# Altium schematic symbol library WE-SL1.SchLib: 8 symbols
Pins are listed as number, name and electrical type; pins without a type are passive.

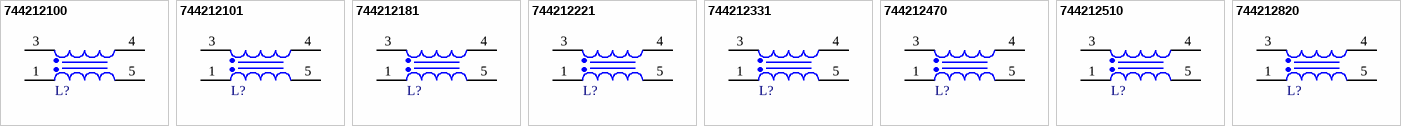
[diagram p0: symbols 744212100 to 744212820]

## 744212100
designator L?, comment 10uH  (value not drawn)
WE-SL1 SMT Common Mode Line Filter, 10uH, 300mA, 0.24Ohm; Manufacturer: Wurth Elektronik; Manufacturer Part Number: 744212100; Impedance Max: 1200Ohm; Number of Windings: 2; Rated Voltage: 80V; Winding Style: sectional; ComponentLink1Description: Manufacturer Link; ComponentLink1URL: https://www.we-online.com/redexpert/article/744212100?ad; ComponentLink2Description: Datasheet; ComponentLink2URL: https://www.we-online.com/redexpert/spec/744212100?ad; Category: Common Mode Chokes; Match Code: WE-SL1; Mount: Surface Mount; Operating Temperature Max: 105°C; Operating Temperature Min: -40°C; Packaging: Tape and Reel; Length: 6.5mm; Width: 3.6mm; Height: 1.65mm; DC Resistance Max: 0.24Ohm; Inductance: 10uH; Rated Current: 300mA
footprint WE-SL1_L6.5W3.6H1.65
pins: 1, 3, 4, 5

## 744212101
designator L?, comment 100uH  (value not drawn)
WE-SL1 SMT Common Mode Line Filter, 100uH, 300mA, 0.22Ohm; Manufacturer: Wurth Elektronik; Manufacturer Part Number: 744212101; Impedance Max: 500Ohm; Number of Windings: 2; Rated Voltage: 80V; Winding Style: sectional; ComponentLink1Description: Manufacturer Link; ComponentLink1URL: https://www.we-online.com/redexpert/article/744212101?ad; ComponentLink2Description: Datasheet; ComponentLink2URL: https://www.we-online.com/redexpert/spec/744212101?ad; Category: Common Mode Chokes; Match Code: WE-SL1; Mount: Surface Mount; Operating Temperature Max: 105°C; Operating Temperature Min: -40°C; Packaging: Tape and Reel; Length: 6.5mm; Width: 3.6mm; Height: 1.65mm; DC Resistance Max: 0.22Ohm; Inductance: 100uH; Rated Current: 300mA
footprint WE-SL1_L6.5W3.6H1.65
pins: 1, 3, 4, 5

## 744212181
designator L?, comment 180uH  (value not drawn)
WE-SL1 SMT Common Mode Line Filter, 180uH, 300mA, 0.25Ohm; Manufacturer: Wurth Elektronik; Manufacturer Part Number: 744212181; Impedance Max: 1000Ohm; Number of Windings: 2; Rated Voltage: 80V; Winding Style: sectional; ComponentLink1Description: Manufacturer Link; ComponentLink1URL: https://www.we-online.com/redexpert/article/744212181?ad; ComponentLink2Description: Datasheet; ComponentLink2URL: https://www.we-online.com/redexpert/spec/744212181?ad; Category: Common Mode Chokes; Match Code: WE-SL1; Mount: Surface Mount; Operating Temperature Max: 105°C; Operating Temperature Min: -40°C; Packaging: Tape and Reel; Length: 6.5mm; Width: 3.6mm; Height: 1.65mm; DC Resistance Max: 0.25Ohm; Inductance: 180uH; Rated Current: 300mA
footprint WE-SL1_L6.5W3.6H1.65
pins: 1, 3, 4, 5

## 744212221
designator L?, comment 220uH  (value not drawn)
WE-SL1 SMT Common Mode Line Filter, 220uH, 300mA, 0.28Ohm; Manufacturer: Wurth Elektronik; Manufacturer Part Number: 744212221; Impedance Max: 1200Ohm; Number of Windings: 2; Rated Voltage: 80V; Winding Style: sectional; ComponentLink1Description: Manufacturer Link; ComponentLink1URL: https://www.we-online.com/redexpert/article/744212221?ad; ComponentLink2Description: Datasheet; ComponentLink2URL: https://www.we-online.com/redexpert/spec/744212221?ad; Category: Common Mode Chokes; Match Code: WE-SL1; Mount: Surface Mount; Operating Temperature Max: 105°C; Operating Temperature Min: -40°C; Packaging: Tape and Reel; Length: 6.5mm; Width: 3.6mm; Height: 1.65mm; DC Resistance Max: 0.28Ohm; Inductance: 220uH; Rated Current: 300mA
footprint WE-SL1_L6.5W3.6H1.65
pins: 1, 3, 4, 5

## 744212331
designator L?, comment 330uH  (value not drawn)
WE-SL1 SMT Common Mode Line Filter, 330uH, 300mA, 0.3Ohm; Manufacturer: Wurth Elektronik; Manufacturer Part Number: 744212331; Impedance Max: 2000Ohm; Number of Windings: 2; Rated Voltage: 80V; Winding Style: sectional; ComponentLink1Description: Manufacturer Link; ComponentLink1URL: https://www.we-online.com/redexpert/article/744212331?ad; ComponentLink2Description: Datasheet; ComponentLink2URL: https://www.we-online.com/redexpert/spec/744212331?ad; Category: Common Mode Chokes; Match Code: WE-SL1; Mount: Surface Mount; Operating Temperature Max: 105°C; Operating Temperature Min: -40°C; Packaging: Tape and Reel; Length: 6.5mm; Width: 3.6mm; Height: 1.65mm; DC Resistance Max: 0.3Ohm; Inductance: 330uH; Rated Current: 300mA
footprint WE-SL1_L6.5W3.6H1.65
pins: 1, 3, 4, 5

## 744212470
designator L?, comment 47uH  (value not drawn)
WE-SL1 SMT Common Mode Line Filter, 47uH, 300mA, 0.16Ohm; Manufacturer: Wurth Elektronik; Manufacturer Part Number: 744212470; Impedance Max: 300Ohm; Number of Windings: 2; Rated Voltage: 80V; Winding Style: sectional; ComponentLink1Description: Manufacturer Link; ComponentLink1URL: https://www.we-online.com/redexpert/article/744212470?ad; ComponentLink2Description: Datasheet; ComponentLink2URL: https://www.we-online.com/redexpert/spec/744212470?ad; Category: Common Mode Chokes; Match Code: WE-SL1; Mount: Surface Mount; Operating Temperature Max: 105°C; Operating Temperature Min: -40°C; Packaging: Tape and Reel; Length: 6.5mm; Width: 3.6mm; Height: 1.65mm; DC Resistance Max: 0.16Ohm; Inductance: 47uH; Rated Current: 300mA
footprint WE-SL1_L6.5W3.6H1.65
pins: 1, 3, 4, 5

## 744212510
designator L?, comment 51uH  (value not drawn)
WE-SL1 SMT Common Mode Line Filter, 51uH, 300mA, 0.16Ohm; Manufacturer: Wurth Elektronik; Manufacturer Part Number: 744212510; Impedance Max: 300Ohm; Number of Windings: 2; Rated Voltage: 80V; Winding Style: sectional; ComponentLink1Description: Manufacturer Link; ComponentLink1URL: https://www.we-online.com/redexpert/article/744212510?ad; ComponentLink2Description: Datasheet; ComponentLink2URL: https://www.we-online.com/redexpert/spec/744212510?ad; Category: Common Mode Chokes; Match Code: WE-SL1; Mount: Surface Mount; Operating Temperature Max: 105°C; Operating Temperature Min: -40°C; Packaging: Tape and Reel; Length: 6.5mm; Width: 3.6mm; Height: 1.65mm; DC Resistance Max: 0.16Ohm; Inductance: 51uH; Rated Current: 300mA
footprint WE-SL1_L6.5W3.6H1.65
pins: 1, 3, 4, 5

## 744212820
designator L?, comment 82uH  (value not drawn)
WE-SL1 SMT Common Mode Line Filter, 82uH, 300mA, 0.2Ohm; Manufacturer: Wurth Elektronik; Manufacturer Part Number: 744212820; Impedance Max: 440Ohm; Number of Windings: 2; Rated Voltage: 80V; Winding Style: sectional; ComponentLink1Description: Manufacturer Link; ComponentLink1URL: https://www.we-online.com/redexpert/article/744212820?ad; ComponentLink2Description: Datasheet; ComponentLink2URL: https://www.we-online.com/redexpert/spec/744212820?ad; Category: Common Mode Chokes; Match Code: WE-SL1; Mount: Surface Mount; Operating Temperature Max: 105°C; Operating Temperature Min: -40°C; Packaging: Tape and Reel; Length: 6.5mm; Width: 3.6mm; Height: 1.65mm; DC Resistance Max: 0.2Ohm; Inductance: 82uH; Rated Current: 300mA
footprint WE-SL1_L6.5W3.6H1.65
pins: 1, 3, 4, 5